# Altium schematic symbol library 0ZCJ0020FF2E.SchLib: 1 symbol
Pins are listed as number, name and electrical type; pins without a type are passive.

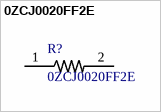
[diagram p0: symbol 0ZCJ0020FF2E]

## 0ZCJ0020FF2E
designator R?
PTC Resettable Fuse 0.2A_hold_ 0.4A_trip_ 30VDC 10A 0.4W 0.1s 0.6Ohm SMD Solder Pad 3.5 X 1.8 X 0.75mm T/R; MF: Bel Fuse; Digi-Key_Part_Number: 507-1797-1-ND; Package: 1206 Bel Fuse; SnapEDA_Link: https://www.snapeda.com/parts/0ZCJ0020FF2E/Bel%20Fuse%20Inc./view-part/?ref=snap; MP: 0ZCJ0020FF2E; Digi-Key_Purchase_URL: https://www.digikey.ca/product-detail/en/bel-fuse-inc/0ZCJ0020FF2E/507-1797-1-ND/4156228?utm_source=snapeda&utm_medium=aggregator&utm_campaign=symbol; Value: *
footprint RESC3216X125N
pins: 1, 2